# Altium schematic symbol library PART.SCHLIB: 421 symbols (part 4 of 4)
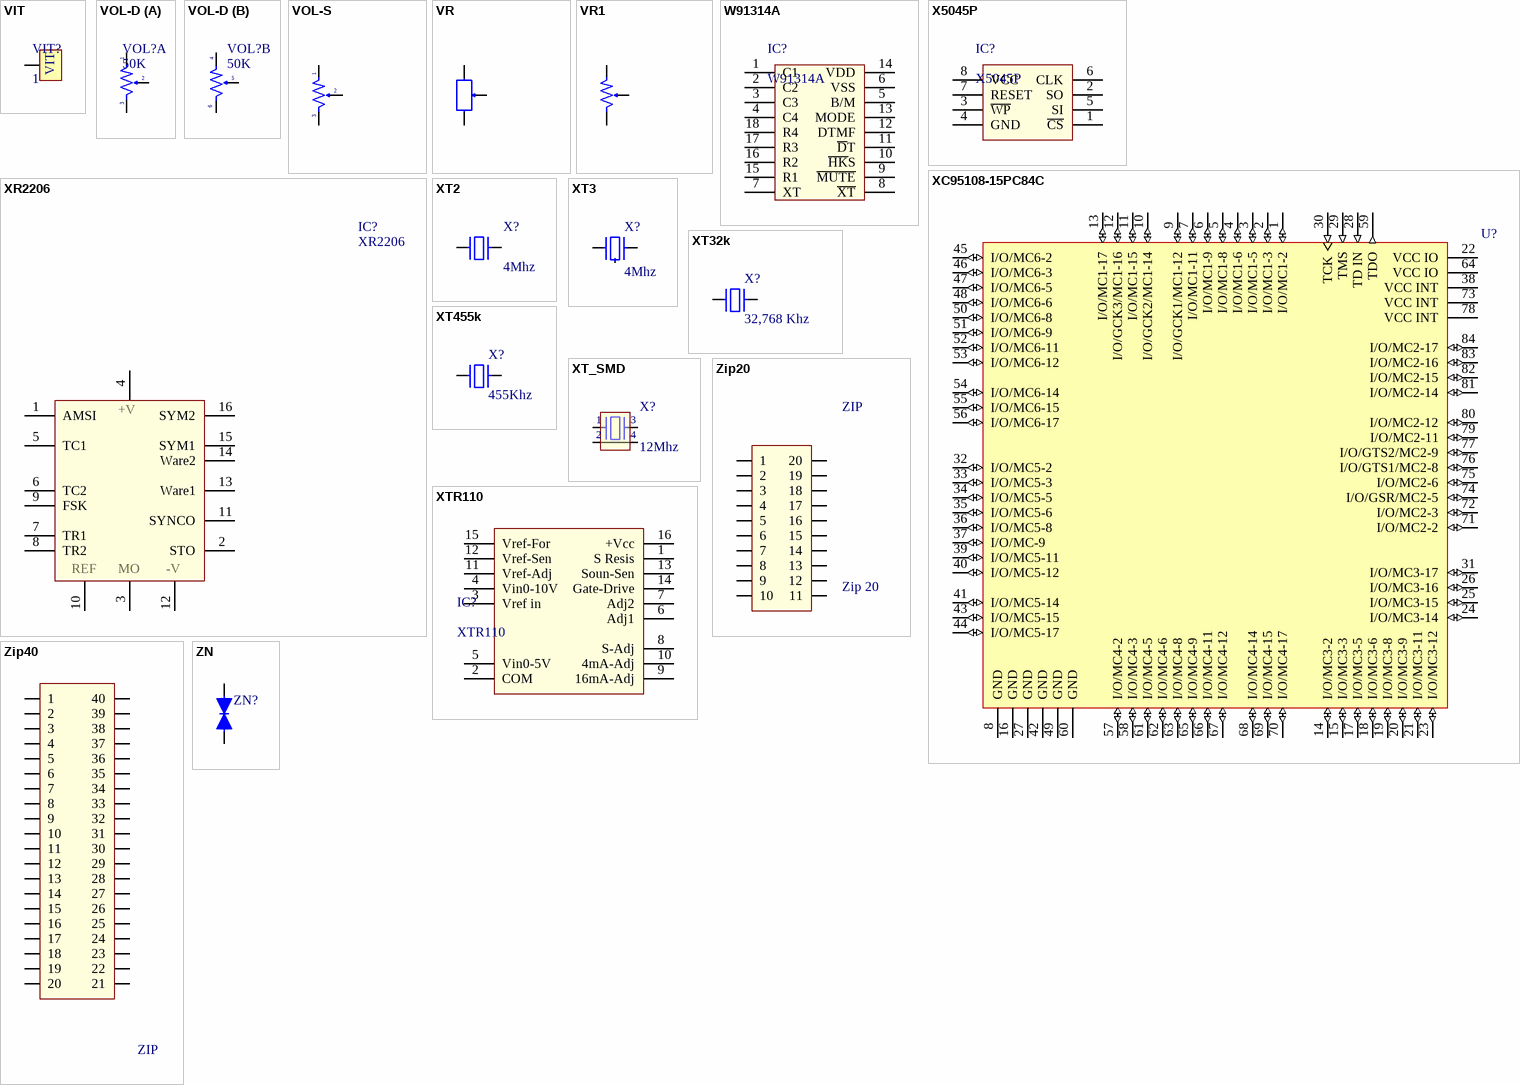
[diagram p21: symbols VIT to ZN]

## XC95108-15PC84C
designator U?  (value not drawn)
Programmable CPLD; Class I: Programmable Logic Device; Class II: XC9500; Revision: 17-Jul-2002: Re-released for DXP Platform.; Value: XC95108
footprint PC84
pins: 1 I/O/MC1-2 (io), 2 I/O/MC1-3 (io), 3 I/O/MC1-5 (io), 4 I/O/MC1-6 (io), 5 I/O/MC1-8 (io), 6 I/O/MC1-9 (io), 7 I/O/MC1-11 (io), 8 GND (power), 9 I/O/GCK1/MC1-12 (io), 10 I/O/GCK2/MC1-14 (io), 11 I/O/MC1-15 (io), 12 I/O/GCK3/MC1-16 (io), 13 I/O/MC1-17 (io), 14 I/O/MC3-2 (io), 15 I/O/MC3-3 (io), 16 GND (power), 17 I/O/MC3-5 (io), 18 I/O/MC3-6 (io), 19 I/O/MC3-8 (io), 20 I/O/MC3-9 (io), 21 I/O/MC3-11 (io), 22 VCC IO (power), 23 I/O/MC3-12 (io), 24 I/O/MC3-14 (io), 25 I/O/MC3-15 (io), 26 I/O/MC3-16 (io), 27 GND (power), 28 TD IN (in), 29 TMS (in), 30 TCK (in), 31 I/O/MC3-17 (io), 32 I/O/MC5-2 (io), 33 I/O/MC5-3 (io), 34 I/O/MC5-5 (io), 35 I/O/MC5-6 (io), 36 I/O/MC5-8 (io), 37 I/O/MC-9 (io), 38 VCC INT (power), 39 I/O/MC5-11 (io), 40 I/O/MC5-12 (io), 41 I/O/MC5-14 (io), 42 GND (power), 43 I/O/MC5-15 (io), 44 I/O/MC5-17 (io), 45 I/O/MC6-2 (io), 46 I/O/MC6-3 (io), 47 I/O/MC6-5 (io), 48 I/O/MC6-6 (io), 49 GND (power), 50 I/O/MC6-8 (io), 51 I/O/MC6-9 (io), 52 I/O/MC6-11 (io), 53 I/O/MC6-12 (io), 54 I/O/MC6-14 (io), 55 I/O/MC6-15 (io), 56 I/O/MC6-17 (io), 57 I/O/MC4-2 (io), 58 I/O/MC4-3 (io), 59 TDO (out), 60 GND (power), 61 I/O/MC4-5 (io), 62 I/O/MC4-6 (io), 63 I/O/MC4-8 (io), 64 VCC IO (power), 65 I/O/MC4-9 (io), 66 I/O/MC4-11 (io), 67 I/O/MC4-12 (io), 68 I/O/MC4-14 (io), 69 I/O/MC4-15 (io), 70 I/O/MC4-17 (io), 71 I/O/MC2-2 (io), 72 I/O/MC2-3 (io), 73 VCC INT (power), 74 I/O/GSR/MC2-5 (io), 75 I/O/MC2-6 (io), 76 I/O/GTS1/MC2-8 (io), 77 I/O/GTS2/MC2-9 (io), 78 VCC INT (power), 79 I/O/MC2-11 (io), 80 I/O/MC2-12 (io), 81 I/O/MC2-14 (io), 82 I/O/MC2-15 (io), 83 I/O/MC2-16 (io), 84 I/O/MC2-17 (io)

## XR2206
designator IC?
OSC Sine - Square - Triangle; Value: DIP 16; Value: XR2206
footprint DIP16/W0.3 (16 PIN, W 300mil)
pins: 1 AMSI, 2 STO, 3 MO, 4 +V, 5 TC1, 6 TC2, 7 TR1, 8 TR2, 9 FSK, 10 REF, 11 SYNCO, 12 -V, 13 Ware1, 14 Ware2, 15 SYM1, 16 SYM2

## XT2
designator X?, comment 4Mhz
Crystal For all Crystal 2pin.; Value: 4Mhz
footprint XT2 (Crystal 2pin, High 200mil)
footprint XT2N (Crystal 2pin, high 200 mil)
pins: 1, 2

## XT3
designator X?, comment 4Mhz
Crystal For all Crystal 2pin.; Value: 4Mhz
footprint XT3 (Crystal 3pin, High 200mil, Cremic)
pins: 1, 2, 3

## XT32k
designator X?, comment 32,768 Khz
Crystal 32,768kHz for timer real; Value: 32,768khz
footprint XT32k (Crystal 32k, 2 pin, real timer for DS1307)
pins: 1, 2

## XT455k
designator X?, comment 455Khz
Crystal 455kHz Infrared; Value: 32,768khz
footprint XT455k (Thach anh 455khz)
footprint XT455KN (Thach anh 455khz)
pins: 1, 2

## XT_SMD
designator X?, comment 12Mhz
Crystal For all Crystal 2pin.; Value: 4Mhz
footprint XT3225 (SMD 32-25 mm - Footpin for Crystal 4 pin)
footprint XT5032 (SMD  50-32 mm - Footpin for Crystal 4 pin)
pins: 1, 2, 3, 4

## XTR110
designator IC?
PRECISION VOLTAGE-TO-CURREN  CONVERTER/TRANSMITTER; Designed by: VanDungEvn; Value: XTR110
footprint DIP16/W0.3 (16 PIN, W 300mil, Pin to pin 100mil)
pins: 1 S Resis, 2 COM, 3 Vref in, 4 Vin0-10V, 5 Vin0-5V, 6 Adj1, 7 Adj2, 8 S-Adj, 9 16mA-Adj, 10 4mA-Adj, 11 Vref-Adj, 12 Vref-Sen, 13 Soun-Sen, 14 Gate-Drive, 15 Vref-For, 16 +Vcc

## Zip20
designator ZIP, comment Zip 20
De 20 pin; Value: Gat 20 pin
footprint ZIP20 (DIP 20, W 600mil/ L 1600mil)
footprint DIP20/W0.3 (DIP 20, 20 PIN, W 300mil, Pin to pin 100mil)
pins: 1, 2, 3, 4, 5, 6, 7, 8, 9, 10, 11, 12, 13, 14, 15, 16, 17, 18, 19, 20

## Zip40
designator ZIP, comment Zip 40  (value not drawn)
De 40 pin; Value: Gat 40 pin
footprint ZIP40 (40 PIN, W 900 mil , L 2600 mil , Push Pro FOR Chip)
footprint DIP40/W0.6 (40 PIN, W 600mil)
footprint DIP40/W0.3 (40 PIN, W 300mil)
pins: 1, 2, 3, 4, 5, 6, 7, 8, 9, 10, 11, 12, 13, 14, 15, 16, 17, 18, 19, 20, 21, 22, 23, 24, 25, 26, 27, 28, 29, 30, 31, 32, 33, 34, 35, 36, 37, 38, 39, 40

## ZN
designator ZN?, comment Z  (value not drawn)
Zenner Protect AC in; Value: Zenner Protect AC input
footprint CN4 (Cap np W 0.4)
pins: 1, 2